# Altium schematic symbol library Button.SchLib: 7 symbols
Pins are listed as number, name and electrical type; pins without a type are passive.

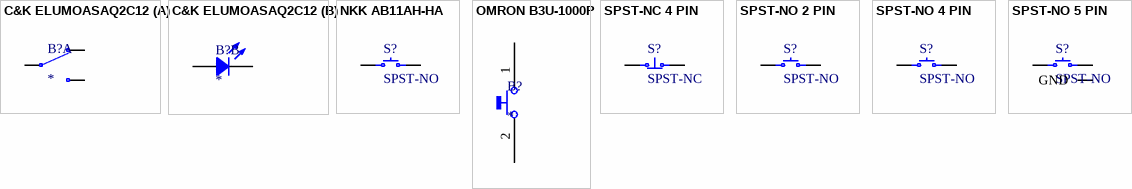
[diagram p0: symbols C&K ELUMOASAQ2C12 to SPST-NO 5 PIN]

## C&K ELUMOASAQ2C12
designator B?
part A pins: 2 NO, 3 C, 4 NC
part B pins: 1 C, 5 A

## NKK AB11AH-HA
designator S?, comment SPST-NO
pins: 1, 3

## OMRON B3U-1000P
designator B?
Without Ground Terminal, without Boss; Supplier 1: Digi-Key; Supplier Part Number 1: SW1020TR-ND; HelpURL: http://www.components.omron.com/components/web/PDFLIB.nsf/0/2DD3893C7DD33E9E862572900079E9D6/$file/B3U_1110.pdf
footprint BTN - B3U-1000P (Without Ground Terminal, without Boss)
pins: 1, 2

## SPST-NC 4 PIN
designator S?, comment SPST-NC
pins: 1, 2, 3, 4

## SPST-NO 2 PIN
designator S?, comment SPST-NO
pins: 1, 2

## SPST-NO 4 PIN
designator S?, comment SPST-NO
pins: 1, 2, 3, 4

## SPST-NO 5 PIN
designator S?, comment SPST-NO
pins: 1, 2, 3, 4, 5 GND